# Altium schematic symbol library Fuente.SchLib: 8 symbols
Pins are listed as number, name and electrical type; pins without a type are passive.

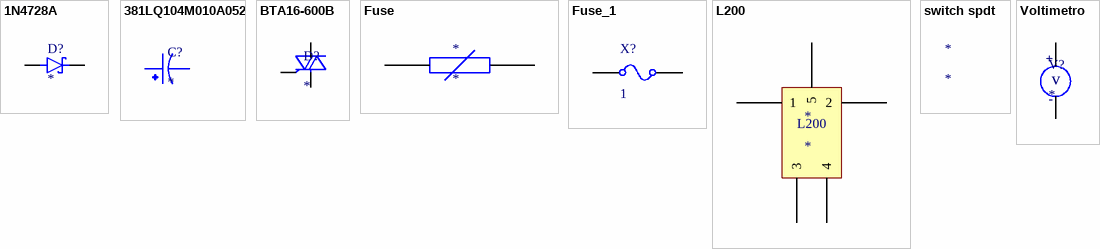
[diagram p0: symbols 1N4728A to Voltimetro]

## 1N4728A
designator D?
Ð¡Ñ‚Ð°Ð±Ð¸Ð»Ð¸Ñ‚Ñ€Ð¾Ð½ 3,3 Ð’ 1 Ð’Ñ‚ Â± 5% ÑÐ¾ ÑÐºÐ²Ð¾Ð·Ð½Ñ‹Ð¼ Ð¾Ñ‚Ð²ÐµÑ€ÑÑ‚Ð¸ÐµÐ¼ DO-41; MF: ON Semiconductor; MP: 1N4728A; SnapEDA_Link: https://www.snapeda.com/parts/1N4728A/Onsemi/view-part/?ref=snap; Package: DO-41 ON Semiconductor; Value: *; Check_prices: https://www.snapeda.com/parts/1N4728A/Onsemi/view-part/?ref=eda
footprint DIOAD1036W78L463D272
pins: 1 K, 2 A

## 381LQ104M010A052
designator C?
100000ÂµF 10V Aluminum Electrolytic Capacitors Radial, Can - Snap-In 20mOhm at 120Hz 2000 Hrs at 105C; MP: 381LQ104M010A052; Package: None; Price: None; Value: *; Availability: Unavailable
footprint CAPPRD1000W160D3600H5200
pins: NEG 2, POS 1

## BTA16-600B
designator D?
TRIAC Standard 600V 16A Through Hole IITO-220E; MP: BTA16-600B; Package: None; Price: None; Availability: Unavailable; Value: *
footprint TO220 (Encapsulado TO220)
pins: 1 A1, 2 A2, 3 G

## Fuse
designator *
footprint PCBComponent_1
pins: 1, 2

## Fuse_1
designator X?, comment CURRENT: 1  (hidden comment: Fuse)
RESISTANCE: 1m; SimulationGenericComponent: True
simulation model FUSE
footprint Fusiblera
pins: 1, 2

## L200
designator *
footprint PENTAWATT
pins: 1, 2, 3, 4, 5

## switch spdt
designator *

## Voltimetro
designator V?
footprint BORNERA 2 POL (Connector; Header; 2 Position)
pins: 1 +, 2 -
text: v